# Altium integrated library Linear Technology Power Management Switching Regulator LTC1174-LTC3901.IntLib: 2647 symbols (part 177 of 364)
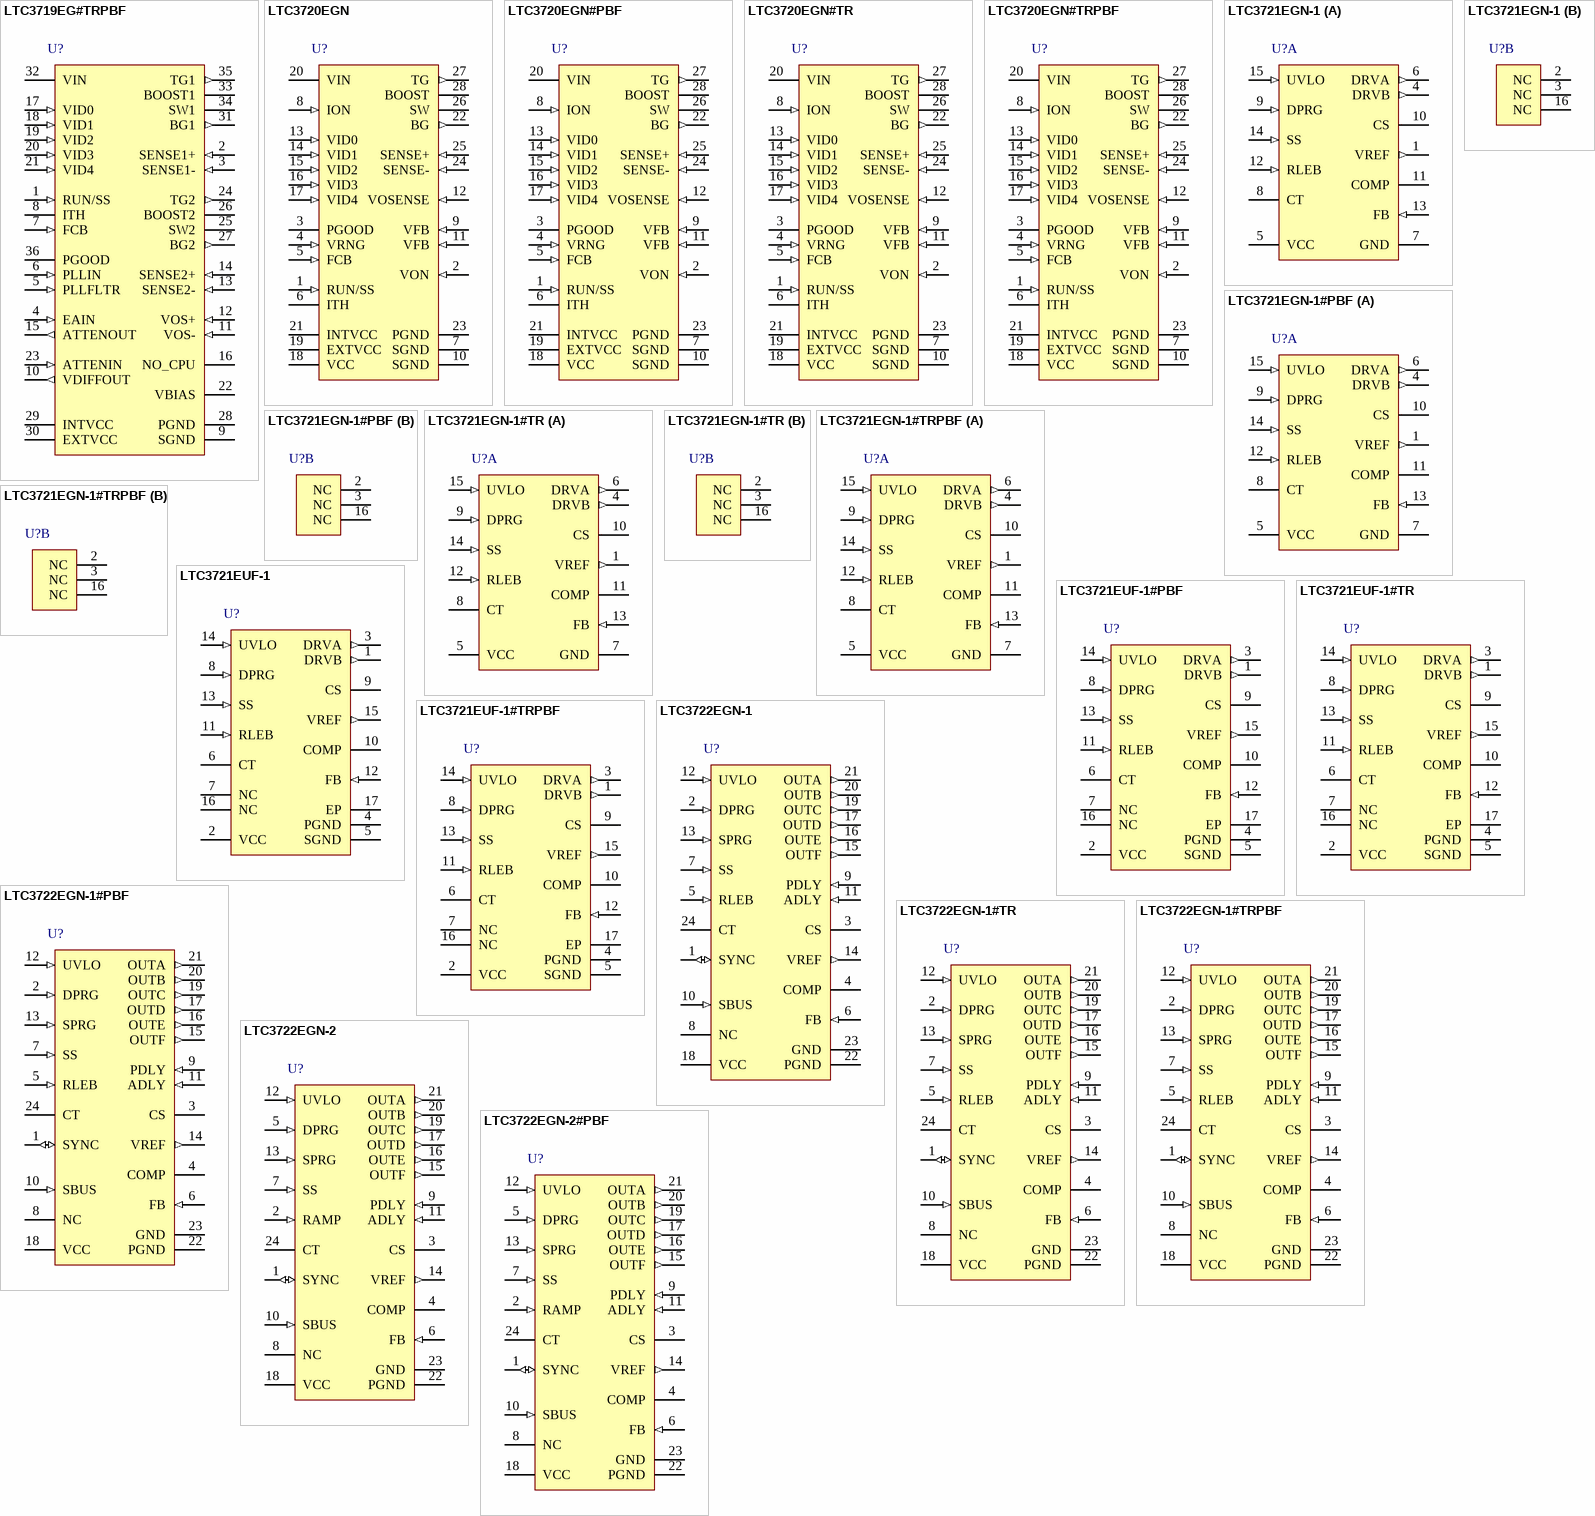
[diagram p305: symbols LTC3719EG#TRPBF to LTC3722EGN-2#PBF]

## LTC3720EGN#PBF
designator U?
Single Phase VRM8.5 Current Mode Step-Down Controller, 28-pin SOP (GN-28), -40 to 85 degC, Pb-Free; Manufacturer: Linear Technology; PartNumber: LTC3720EGN#PBF; Number of Outputs: 1; PackageVersion: Rev. B, 03/2012; PackageReference: GN-28; PackageDescription: 28-Pin Plastic SSOP, Body 9.9 x 3.9 mm, Pitch 0.635 mm; Supplier 1: Digi-Key; Supplier Part Number 1: LTC3720EGN#PBF-ND; Supplier 2: Farnell; Supplier Part Number 2: 1273957; Supplier 3: Newark; Supplier Part Number 3: 56M8149; RoHS: TRUE; Mounting Technology: Surface Mount; ComponentLink1Description: Manufacturer URL; ComponentLink1URL: http://www.linear.com/; ComponentLink2Description: Datasheet; ComponentLink2URL: http://cds.linear.com/docs/en/datasheet/3720f.pdf; ComponentLink3Description: Package Specification; ComponentLink3URL: http://cds.linear.com/docs/en/packaging/05081641_B_GN28.pdf
footprint LT-GN-28_N (SOP, 28-Leads, Body 9.98x3.98mm, Pitch 0.635mm, IPC Medium Density)
footprint LT-GN-28_L (SOP, 28-Leads, Body 9.98x3.98mm, Pitch 0.635mm, IPC High Density)
footprint LT-GN-28_M (SOP, 28-Leads, Body 9.98x3.98mm, Pitch 0.635mm, IPC Low Density)
pins: 1 RUN/SS (in) "Run Control and Soft-Start Input. A capacitor to ground at this pin sets the ramp time to full output current (approximately 3s/uF) and the time delay for overcurrent latchoff (see Applications Information). Forcing this pin (See Datasheet)", 2 VON (in) "On-Time Voltage Input. Voltage trip point for the on-time comparator. Tying this pin to the output voltage makes the on-time proportional to VOUT. The comparator input defaults to 0.7V when the pin is grounded, 2.4V when the (See Datasheet)", 3 PGOOD (oc) "Power Good Output. Open drain logic output that is pulled to ground when the output voltage is not within +/-7.5% of the regulation point.", 4 VRNG (in) "Sense Voltage Range Input. The voltage at this pin is ten times the nominal sense voltage at maximum output current and can be set from 0.5V to 2V by a resistive divider from INTVCC. The nominal sense voltage defaults to (See Datasheet)", 5 FCB (in) "Forced Continuous Input. Tie this pin to ground to force continuous synchronous operation at low load or to INTVCC to enable discontinuous mode operation at low load.", 6 ITH "Current Control Threshold and Error Amplifier Compensation Point. The current comparator threshold increases with this control voltage. The voltage ranges from 0V to 2.4V with 0.8V corresponding to zero sense voltage (zero (See Datasheet)", 7 SGND (power) "Signal Ground. All small-signal components and compensation components should connect to this ground, which in turn connects to PGND at one point.", 8 ION (in) "On-Time Current Input. Tie a resistor from VIN to this pin to set the one-shot timer current and thereby set the switching frequency.", 9 VFB (in) "Error Amplifier Feedback Input. This pin connects to both the error amplifier input and to the output of the internal resistive divider. It can be used to attach additional compensation components if desired.", 10 SGND (power) "Signal Ground. All small-signal components and compensation components should connect to this ground, which in turn connects to PGND at one point.", 11 VFB (in) "Error Amplifier Feedback Input. This pin connects to both the error amplifier input and to the output of the internal resistive divider. It can be used to attach additional compensation components if desired.", 12 VOSENSE (in) "Output Voltage Sense. The output voltage connects here to the input of the internal resistive feedback divider.", 13 VID0 (in) "VID Digital Inputs. The voltage identification (VID) code sets the internal feedback resistor divider ratio for different output voltages as shown in Table 1. If unconnected, the pins are pulled high by internal 40k pull-up (See Datasheet)", 14 VID1 (in) "VID Digital Inputs. The voltage identification (VID) code sets the internal feedback resistor divider ratio for different output voltages as shown in Table 1. If unconnected, the pins are pulled high by internal 40k pull-up (See Datasheet)", 15 VID2 (in) "VID Digital Inputs. The voltage identification (VID) code sets the internal feedback resistor divider ratio for different output voltages as shown in Table 1. If unconnected, the pins are pulled high by internal 40k pull-up (See Datasheet)", 16 VID3 (in) "VID Digital Inputs. The voltage identification (VID) code sets the internal feedback resistor divider ratio for different output voltages as shown in Table 1. If unconnected, the pins are pulled high by internal 40k pull-up (See Datasheet)", 17 VID4 (in) "VID Digital Inputs. The voltage identification (VID) code sets the internal feedback resistor divider ratio for different output voltages as shown in Table 1. If unconnected, the pins are pulled high by internal 40k pull-up (See Datasheet)", 18 VCC (power) "Power Supply Voltage for VID. Range is from 3.1V to 5.5V.", 19 EXTVCC (power) "External VCC Input. When EXTVCC exceeds 4.7V, an internal switch connects this pin to INTVCC and shuts down the internal regulator so that controller and gate drive power is drawn from EXTVCC. Do not exceed 7V at this pin (See Datasheet)", 20 VIN (power) "Main Input Supply. Decouple this pin to PGND with an RC filter (1ohm, 0.1uF).", 21 INTVCC (power) "Internal 5V Regulator Output. The driver and control circuits are powered from this voltage. Decouple this pin to power ground with a minimum of 4.7mF low ESR tantalum capacitor", 22 BG (out) "Bottom Gate Drive. Drives the gate of the bottom N-channel MOSFET between ground and INTVCC.", 23 PGND (power) "Power Ground. Connect this pin closely to the source of the bottom N-channel MOSFET, the (-) terminal of CVCC and the (-) terminal of CIN.", 24 SENSE- (in) "Current Sense Comparator Input. The (-) input is normally connected to PGND.", 25 SENSE+ (in) "Current Sense Comparator Input. The (+) input to the current comparator is normally connected to the SW node unless using a sense resistor (see Applications Information).", 26 SW "Switch Node. The (-) terminal of the bootstrap capacitor CB connects here. This pin swings from a diode voltage drop below ground up to VIN.", 27 TG (out) "Top Gate Drive. Drives the top N-channel MOSFET with a voltage swing equal to INTVCC superimposed on the switch node voltage SW.", 28 BOOST "Boosted Floating Driver Supply. The (+) terminal of the bootstrap capacitor CB connects here. This pin swings from a diode voltage drop below INTVCC up to VIN + INTVCC."